# Altium footprint library DIP28.PcbLib: 2 footprints
Each footprint in its own frame and in the unit in brackets; x right, y up, seen from the top. Pads: shape width x height; smd on the part's side, far side on the other; paste and mask are expansions set on the pad; w line width, h text height; cw(c..) or ccw(c..) is an arc to the next point about the centre after c.
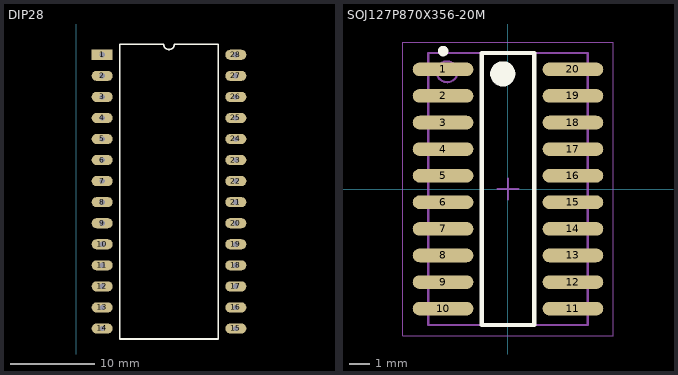
[diagram p0: the footprints below, top view; thin cyan lines are the x and y axes]

## DIP28 [mm]
pads (28):
  rect 2.5x1.2 hole 0.625: 1(3.1,-5.715)
  oval 2.5x1.2 hole 0.625: 2(3.1,-8.215) 3(3.1,-10.715) 4(3.1,-13.215) 5(3.1,-15.715) 6(3.1,-18.215) 7(3.1,-20.715) 8(3.1,-23.215) 9(3.1,-25.715) 10(3.1,-28.215) 11(3.1,-30.715) 12(3.1,-33.215) 13(3.1,-35.715) 14(3.1,-38.215) 15(18.98,-38.215) 16(18.98,-35.715) 17(18.98,-33.215) 18(18.98,-30.715) 19(18.98,-28.215) 20(18.98,-25.715) 21(18.98,-23.215) 22(18.98,-20.715) 23(18.98,-18.215) 24(18.98,-15.715) 25(18.98,-13.215) 26(18.98,-10.715) 27(18.98,-8.215) 28(18.98,-5.715)
Top Overlay:
  lines w0.2: 5.185,-39.465 5.185,-4.465 10.415,-4.465 ccw(c11.04,-4.465) 11.665,-4.465 16.895,-4.465 16.895,-39.465 5.185,-39.465

## SOJ127P870X356-20M [mm] "SOJ, 20-Leads, Body 13,00x8,66mm, Pitch 1,27mm, IPC Low Density"
height 3.56
pads (20):
  oval 2.9x0.65 smd: 1(-3.1,5.715) 2(-3.1,4.445) 3(-3.1,3.175) 4(-3.1,1.905) 5(-3.1,0.635) 6(-3.1,-0.635) 7(-3.1,-1.905) 8(-3.1,-3.175) 9(-3.1,-4.445) 10(-3.1,-5.715) 11(3.1,-5.715) 12(3.1,-4.445) 13(3.1,-3.175) 14(3.1,-1.905) 15(3.1,-0.635) 16(3.1,0.635) 17(3.1,1.905) 18(3.1,3.175) 19(3.1,4.445) 20(3.1,5.715)
Top Overlay:
  circle w0.6: c-0.25,5.5 r0.3
  circle w0.25: c-3.1,6.59 r0.125
  lines w0.2: -1.25,-6.5 1.25,-6.5 1.25,6.5 -1.25,6.5 -1.25,-6.5
Mechanical 13:
  circle w0.1: c-2.91,5.6 r0.5
  lines w0.1: -3.81,-6.5 3.81,-6.5 3.81,6.5 -3.81,6.5 -3.81,-6.5
Mechanical 15:
  lines w0.05: -5.025,-7 5.025,-7 5.025,7 -5.025,7 -5.025,-7
  lines w0.1: -0.5,0 0.5,0 ; 0,-0.5 0,0.5
3D body: height 3.56, standoff 0.64, extent -3.81,-6.5 3.81,6.5